# Altium footprint library Capacitors.PcbLib: 43 footprints (part 1 of 3)
Each footprint in its own frame and in the unit in brackets; x right, y up, seen from the top. Pads: shape width x height; smd on the part's side, far side on the other; paste and mask are expansions set on the pad; w line width, h text height; cw(c..) or ccw(c..) is an arc to the next point about the centre after c.
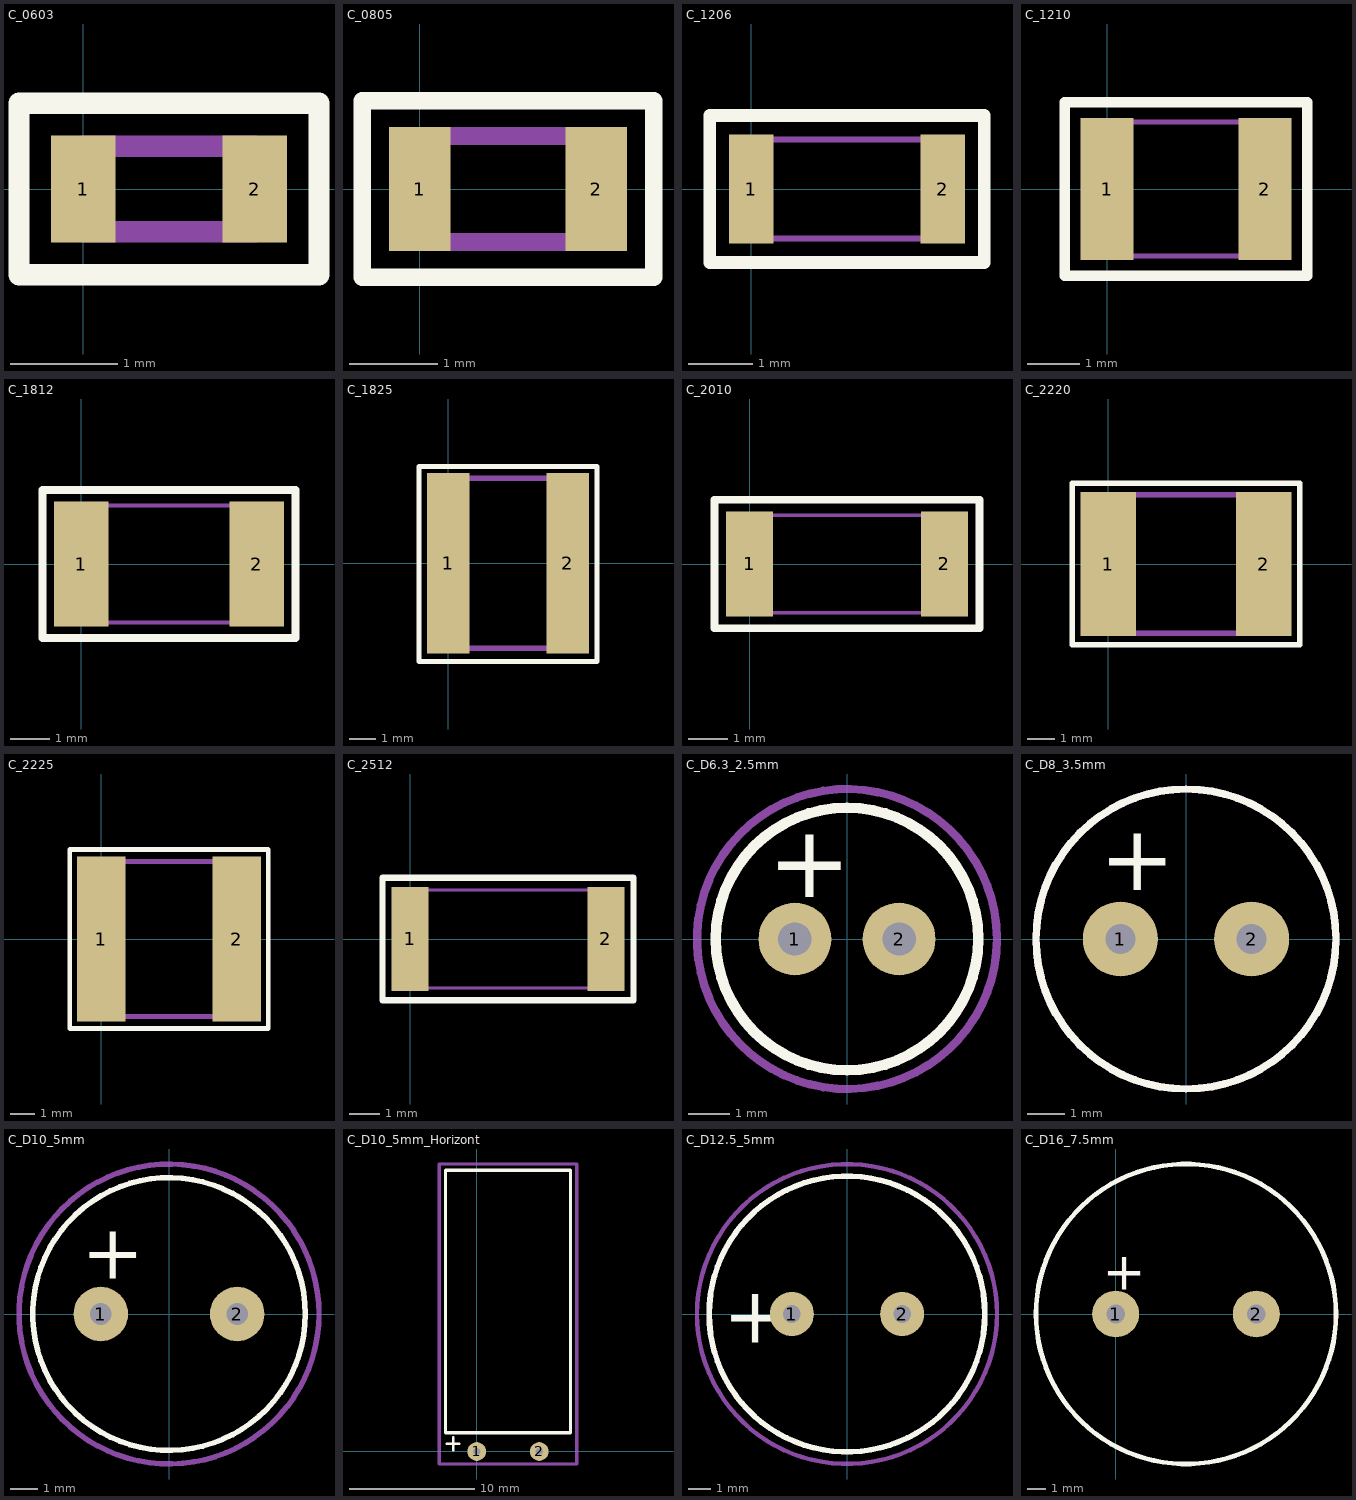
[diagram p0: the footprints below, top view; thin cyan lines are the x and y axes]

## C_0603 [mm]
pads (2):
  rect 0.6x1 smd: 1(0,0) 2(1.6,0)
Top Overlay:
  lines w0.2: -0.6,-0.8 2.2,-0.8 2.2,0.8 -0.6,0.8 -0.6,-0.8
TopAssy:
  lines w0.2: 0,-0.4 1.6,-0.4 1.6,0.4 0,0.4 0,-0.4
3D body "CAPC1608X55N EIA 0603.step": height 0.55, standoff 0, extent 0,-0.4 1.6,0.4

## C_0805 [mm] "Chip Resistor, Body 2.0x1.2mm, IPC Medium Density"
height 0.7
pads (2):
  rect 0.7x1.4 smd: 1(0,0) 2(2,0)
Top Overlay:
  lines w0.2: -0.65,-1 2.65,-1 2.65,1 -0.65,1 -0.65,-1
TopAssy:
  lines w0.2: 0,-0.6 2,-0.6 2,0.6 0,0.6 0,-0.6
3D body "CAPC2012X70N EIA 0805.step": height 0.7, standoff 0, extent 0,-0.6 2,0.6

## C_1206 [mm] "Chip Resistor, Body 3.2x1.6mm"
height 1.3
pads (2):
  rect 0.7x1.7 smd: 1(0,0) 2(3,0)
Top Overlay:
  lines w0.2: -0.65,-1.15 3.65,-1.15 3.65,1.15 -0.65,1.15 -0.65,-1.15
TopAssy:
  lines w0.1: 0,-0.775 3,-0.775 3,0.775 0,0.775 0,-0.775
3D body "CAPC3216X125N EIA 1206.step": height 1.25, standoff 0, extent -0.1,-0.8 3.1,0.8

## C_1210 [mm] "Chip Resistor, Body 3.2x2.5mm"
height 0.9
pads (2):
  rect 1x2.7 smd: 1(0,0) 2(3,0)
Top Overlay:
  lines w0.2: -0.8,-1.65 3.8,-1.65 3.8,1.65 -0.8,1.65 -0.8,-1.65
TopAssy:
  lines w0.1: 0,-1.275 0,1.275 3,1.275 3,-1.275 0,-1.275
3D body "CAPC3225X245N EIA 1210.step": height 2.45, standoff 0, extent -0.1,-1.25 3.1,1.25

## C_1812 [mm] "Chip Resistor, Body 6.4x3.2mm, IPC High Density"
height 0.9
pads (2):
  rect 1.4x3.2 smd: 1(0,0) 2(4.5,0)
Top Overlay:
  lines w0.2: -1,-1.9 -1,1.9 5.5,1.9 5.5,-1.9 -1,-1.9
TopAssy:
  lines w0.1: 0,-1.5 0,1.5 4.5,1.5 4.5,-1.5 0,-1.5
3D body "CAPC4532X270N EIA 1812.step": height 2.7, standoff 0, extent 0,-1.6 4.5,1.6

## C_1825 [mm] "Chip Capacitor, Body 4.5x6.4mm, IPC High Density"
height 1.4
pads (2):
  rect 1.6x6.8 smd: 1(0,0) 2(4.5,0)
Top Overlay:
  lines w0.2: -1.1,-3.7 5.6,-3.7 5.6,3.65 -1.1,3.65 -1.1,-3.7
TopAssy:
  lines w0.2: 0,-3.2 4.5,-3.2 4.5,3.2 0,3.2 0,-3.2
3D body "CAPC4564X218N EIA 1825.step": height 2.18, standoff 0, extent 0,-3.2 4.5,3.2

## C_2010 [mm] "Chip Resistor, Body 5.0x2.5mm"
height 0.9
pads (2):
  rect 1.2x2.7 smd: 1(0,0) 2(5,0)
Top Overlay:
  lines w0.2: -0.9,-1.65 5.9,-1.65 5.9,1.65 -0.9,1.65 -0.9,-1.65
TopAssy:
  lines w0.1: 0,-1.25 5,-1.25 5,1.25 0,1.25 0,-1.25
Mechanical 15:
  lines w0.1: -0.5,0 0.5,0 ; 0,-0.5 0,0.5
3D body "CAPC5025X71N EIA 2010.step": height 0.71, standoff 0, extent 0,-1.25 5,1.25

## C_2220 [mm] "Chip Capacitor, Body 5.7x5.0mm, IPC High Density"
height 1.4
pads (2):
  rect 2x5.2 smd: 1(0,0) 2(5.6,0)
Top Overlay:
  lines w0.2: -1.3,-2.9 6.9,-2.9 6.9,2.9 -1.3,2.9 -1.3,-2.9
TopAssy:
  lines w0.2: 0,-2.5 5.6,-2.5 5.6,2.5 0,2.5 0,-2.5
3D body "CAPC5651X218N EIA 2220.step": height 2.18, standoff 0, extent 0,-2.55 5.6,2.55

## C_2225 [mm] "Chip Capacitor, Body 5.7x6.4mm, IPC High Density"
height 1.4
pads (2):
  rect 2x6.8 smd: 1(0,0) 2(5.6,0)
Top Overlay:
  lines w0.2: -1.3,-3.7 -1.3,3.7 6.9,3.7 6.9,-3.7 -1.3,-3.7
TopAssy:
  lines w0.2: 0,-3.2 0,3.2 5,3.2 5,-3.2 0,-3.2
3D body "CAPC5664X218N EIA 2225.step": height 2.18, standoff 0, extent 0,-3.2 5.6,3.2

## C_2512 [mm] "Chip Resistor, Body 6.4x3.2mm, IPC High Density"
height 0.9
pads (2):
  rect 1.2x3.4 smd: 1(0,0) 2(6.4,0)
Top Overlay:
  lines w0.2: -0.9,-2 -0.9,2 7.3,2 7.3,-2 -0.9,-2
TopAssy:
  lines w0.1: 0,-1.6 6.4,-1.6 6.4,1.6 0,1.6 0,-1.6
3D body "CAPC6332X71N EIA 2512.step": height 0.71, standoff 0, extent 0.05,-1.6 6.35,1.6

## C_D6.3_2.5mm [mm]
height 10
pads (2):
  round 1.75 hole 0.8: 1(-1.25,0) 2(1.25,0)
Top Overlay:
  circle w0.254: c0,0 r3.15
  text "+" at -1.9,1 h1.75
Mechanical 15:
  circle w0.2: c0,0 r3.6

## C_D8_3.5mm [mm]
height 16
pads (2):
  round 2 hole 0.8: 1(-1.75,0) 2(1.75,0)
Top Overlay:
  circle w0.2: c0,0 r4
  text "+" at -2.3,1.3 h1.75
Mechanical 15:
  circle w0.2: c0,0 r4
3D body: height 8, standoff 0, extent -3.999,-3.999 3.999,3.999
3D body: height 2.9, standoff -0.1, extent -1.998,-0.249 -1.5,0.25
3D body: height 2.9, standoff -0.1, extent 1.502,-0.249 2,0.25

## C_D10_5mm [mm]
height 16
pads (2):
  round 2 hole 0.8: 1(-2.5,0) 2(2.5,0)
Top Overlay:
  circle w0.2: c0,0 r5
  text "+" at -3.2,1.3 h2
TopAssy:
  circle w0.2: c0,0 r5.5
3D body "User Library-CE_R200_D400_H500.STEP": height 13.2, standoff -2.2, extent -5.039,-5.062 5.08,5.063

## C_D10_5mm_Horizont [mm]
pads (2):
  round 1.5 hole 0.6: 1(0,0) 2(5,0)
Top Overlay:
  lines w0.2: -2.408,0.625 -1.392,0.625 ; -1.9,0.117 -1.9,1.133
  lines w0.254: -2.5,1.5 7.5,1.5 7.5,22.5 -2.5,22.5 -2.5,1.5
Mechanical 15:
  lines w0.254: -3,-1 8,-1 8,23 -3,23 -3,-1

## C_D12.5_5mm [mm]
height 20
pads (2):
  round 2 hole 0.8: 1(-2.5,0) 2(2.5,0)
Top Overlay:
  circle w0.254: c0,0 r6.25
  text "+" at -5.6,-1.3 h2.52
Mechanical 15:
  circle w0.2: c0,0 r6.8

## C_D16_7.5mm [mm]
height 20
pads (2):
  round 2.5 hole 1: 1(0,0) 2(7.5,0)
Top Overlay:
  circle w0.254: c3.75,0 r8
  text "+" at -0.7,1.3 h2
TopAssy:
  circle w0.2: c3.75,0 r8
3D body "User Library-CE_R300_D650_H1000.STEP": height 26.2, standoff -2.7, extent -4.483,-8.23 12,8.231